# Altium schematic symbol library 78XX.SchLib: 2 symbols
Pins are listed as number, name and electrical type; pins without a type are passive.

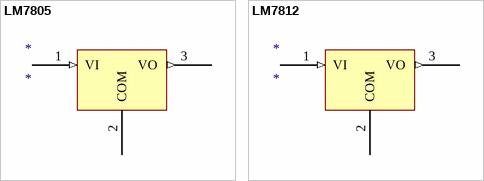
[diagram p0: symbols LM7805 to LM7812]

## LM7805
designator *
pins: 1 VI (in), 2 COM (power), 3 VO (out)

## LM7812
designator *
pins: 1 VI (in), 2 COM (power), 3 VO (out)